# Altium footprint library Rez_Cap.PcbLib: 25 footprints (part 2 of 2)
Each footprint in its own frame and in the unit in brackets; x right, y up, seen from the top. Pads: shape width x height; smd on the part's side, far side on the other; paste and mask are expansions set on the pad; w line width, h text height; cw(c..) or ccw(c..) is an arc to the next point about the centre after c.
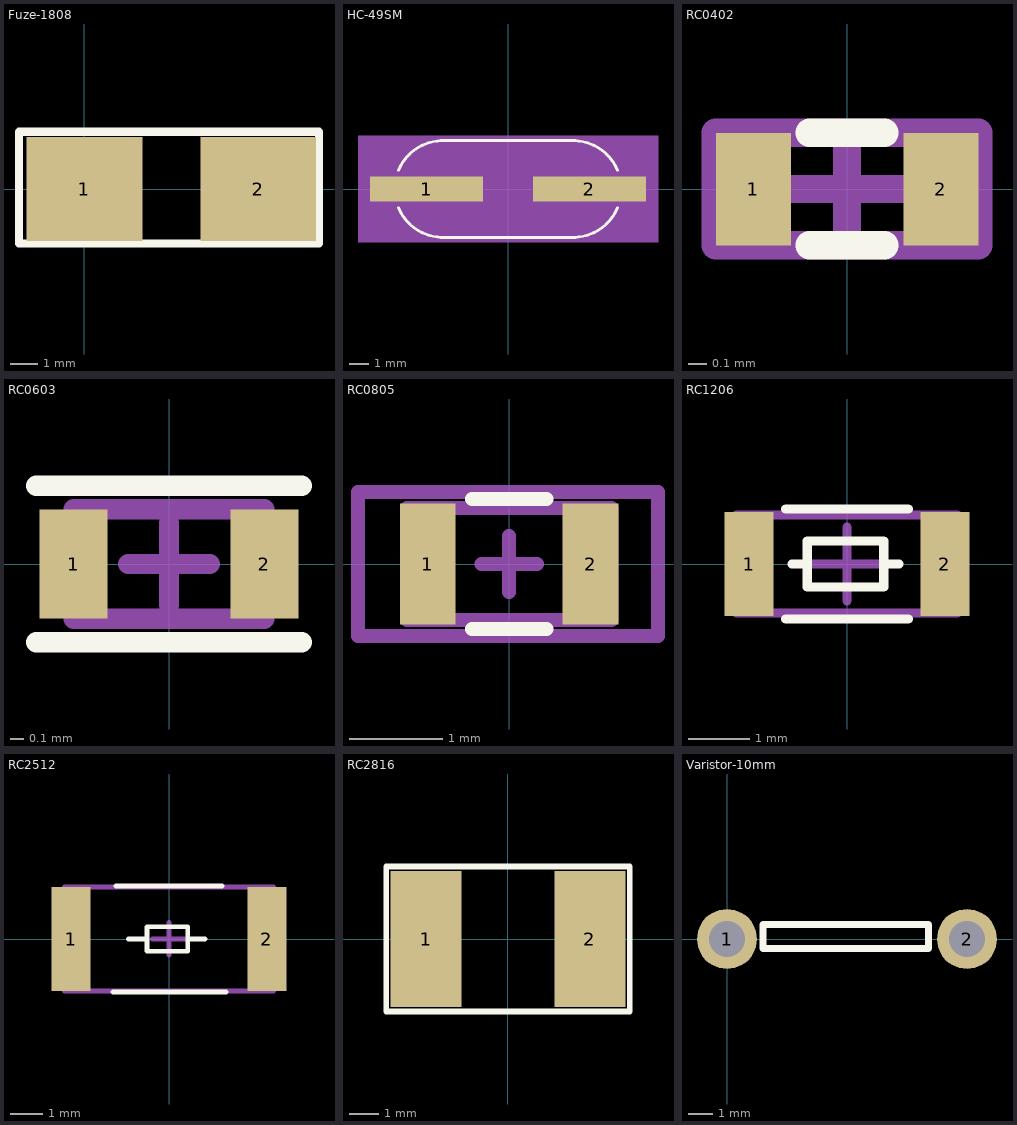
[diagram p1: the footprints below, top view; thin cyan lines are the x and y axes]

## Fuze-1808 [mm]
pads (2):
  rect 4.24x3.81 smd: 1(0,0) 2(6.37,0)
Top Overlay:
  lines w0.3: -2.4,-2 8.6,-2 8.6,2.1 -2.4,2.1 -2.4,-2

## HC-49SM [mil]
pads (2):
  rect 233x51 smd paste+0 mask+0: 1(-167.5,0) 2(167.5,0)
Top Overlay:
  lines w6: -225.71,-38.6 ccw(c-134,0) -134,-99.5 ; -225.71,38.6 cw(c-134,0) -134,99.5 ; -139,-99.5 139,-99.5 ; -139,99.5 139,99.5 ; 134,-99.5 ccw(c134,0) 225.71,-38.6 ; 134,99.5 cw(c134,0) 225.71,38.6
Bottom 3D Body:
  region: 309,-109.5 -309,-109.5 -309,109.5 309,109.5
Mechanical 13:
  lines w0: -134,-94.5 cw(c-134,0) -134,94.5 ; -134,-74.5 cw(c-134,0) -134,74.5 ; 134,-94.5 ccw(c134,0) 134,94.5 ; 134,-74.5 ccw(c134,0) 134,74.5
  lines w1: -134,-94.5 134,-94.5 ; -134,-74.5 134,-74.5 ; -134,74.5 134,74.5 ; -134,94.5 134,94.5
Mechanical 15:
  region: 294,-104.5 -294,-104.5 -294,104.5 294,104.5
  lines w6: -294,-104.5 294,-104.5 294,104.5 -294,104.5 -294,-104.5
3D body "XTAL_HC49SM_MTC.step": height 159.02, standoff 0, extent -264.02,-94.49 264.02,94.49

## RC0402 [mm]
pads (2):
  rect 0.4x0.6 smd: 1(-0.5,0) 2(0.5,0)
Top Overlay:
  lines w0.15: -0.2,-0.3 0.2,-0.3 ; -0.2,0.3 0.2,0.3
Top Courtyard:
  lines w0.15: -0.3,0 0.3,0 ; 0,-0.3 0,0.3 ; -0.7,-0.3 0.7,-0.3 0.7,0.3 -0.7,0.3 -0.7,-0.3
3D body "0402R.STEP": height 0.34, standoff 0, extent -0.52,-0.3 0.52,0.3

## RC0603 [mm]
height 0.45
pads (2):
  rect 0.5x0.8 smd: 1(-0.7,0) 2(0.7,0)
Top Overlay:
  lines w0.15: -0.975,-0.575 0.975,-0.575 ; -0.975,0.575 0.975,0.575
Top Courtyard:
  lines w0.15: -0.3,0 0.3,0 ; 0,-0.3 0,0.3 ; -0.7,-0.4 0.7,-0.4 0.7,0.4 -0.7,0.4 -0.7,-0.4
3D body: height 0.45, standoff 0, extent -0.7,-0.41 -0.5,0.41
3D body: height 0.45, standoff 0, extent 0.5,-0.41 0.7,0.41
3D body: height 0.45, standoff 0, extent -0.5,-0.41 0.5,0.41

## RC0805 [mm]
height 1
pads (2):
  rect 0.6x1.3 smd: 1(-0.875,0) 2(0.875,0)
Top Overlay:
  lines w0.15: -0.4,-0.7 0.4,-0.7 ; -0.4,0.7 0.4,0.7
Top Courtyard:
  lines w0.15: -0.3,0 0.3,0 ; 0,-0.3 0,0.3 ; -1.1,-0.6 -1.1,0.6 1.1,0.6 1.1,-0.6 -1.1,-0.6
Mechanical 29:
  lines w0.15: -1.625,-0.775 1.6,-0.775 1.6,0.775 -1.625,0.775 -1.625,-0.775
  text ".Designator" at -1.5,-0.5 h1
3D body: height 0.5, standoff 0, extent -1,-0.6 -0.4,0.6
3D body: height 0.5, standoff 0, extent -0.4,-0.6 0.4,0.6
3D body: height 0.5, standoff 0, extent 0.4,-0.6 1,0.6

## RC1206 [mm]
pads (2):
  rect 0.8x1.7 smd: 1(-1.6,0) 2(1.6,0)
Top Overlay:
  lines w0.15: -1,-0.9 1,-0.9 ; -1,0.9 1,0.9 ; -0.9,0 -0.65,0 ; 0.85,0 0.6,0 ; -0.65,0 -0.65,0.375 0.6,0.375 0.6,0 ; -0.65,0 -0.65,-0.375 0.6,-0.375 0.6,0
Top Courtyard:
  lines w0.15: -0.6,0 0.6,0 ; 0,-0.6 0,0.6 ; -1.8,-0.8 1.8,-0.8 1.8,0.8 -1.8,0.8 -1.8,-0.8
3D body: height 0.8, standoff 0, extent -1.7,-0.8 -0.9,0.8
3D body: height 0.8, standoff 0, extent -0.9,-0.8 0.9,0.8
3D body: height 0.8, standoff 0, extent 0.9,-0.8 1.7,0.8

## RC2512 [mm]
pads (2):
  rect 1.2x3.2 smd: 1(-3,0) 2(3,0)
Top Overlay:
  lines w0.15: -1.725,-1.625 1.75,-1.625 ; -1.625,1.625 1.625,1.625 ; -1.25,0 -0.675,0 ; 1.1,0 0.575,0 ; -0.675,0 -0.675,0.375 0.575,0.375 0.575,0 ; -0.675,0 -0.675,-0.375 0.575,-0.375 0.575,0
Top Courtyard:
  lines w0.15: -0.5,0 0.5,0 ; 0,-0.5 0,0.5 ; -3.2,-1.6 -3.2,1.6 3.2,1.6 3.2,-1.6 -3.2,-1.6
3D body: height 0.55, standoff 0, extent -2.5,-1.6 2.5,1.6
3D body: height 0.55, standoff 0, extent 2.5,-1.6 3.2,1.6
3D body: height 0.55, standoff 0, extent -3.2,-1.6 -2.5,1.6

## RC2816 [mm]
pads (2):
  rect 2.45x4.7 smd: 1(-2.825,0) 2(2.825,0)
Top Overlay:
  lines w0.2: -4.2,-2.5 -4.2,0 -4.2,2.5 4.2,2.5 4.2,-2.5 -4.2,-2.5

## Varistor-10mm [mm]
pads (2):
  round 2.5 hole 1.5 unplated: 1(0,0) 2(10,0)
Top Overlay:
  lines w0.3: 1.5,-0.4 8.4,-0.4 8.4,0.6 1.5,0.6 1.5,-0.4